# Altium schematic symbol library Additional.SchLib: 6 symbols
Pins are listed as number, name and electrical type; pins without a type are passive.

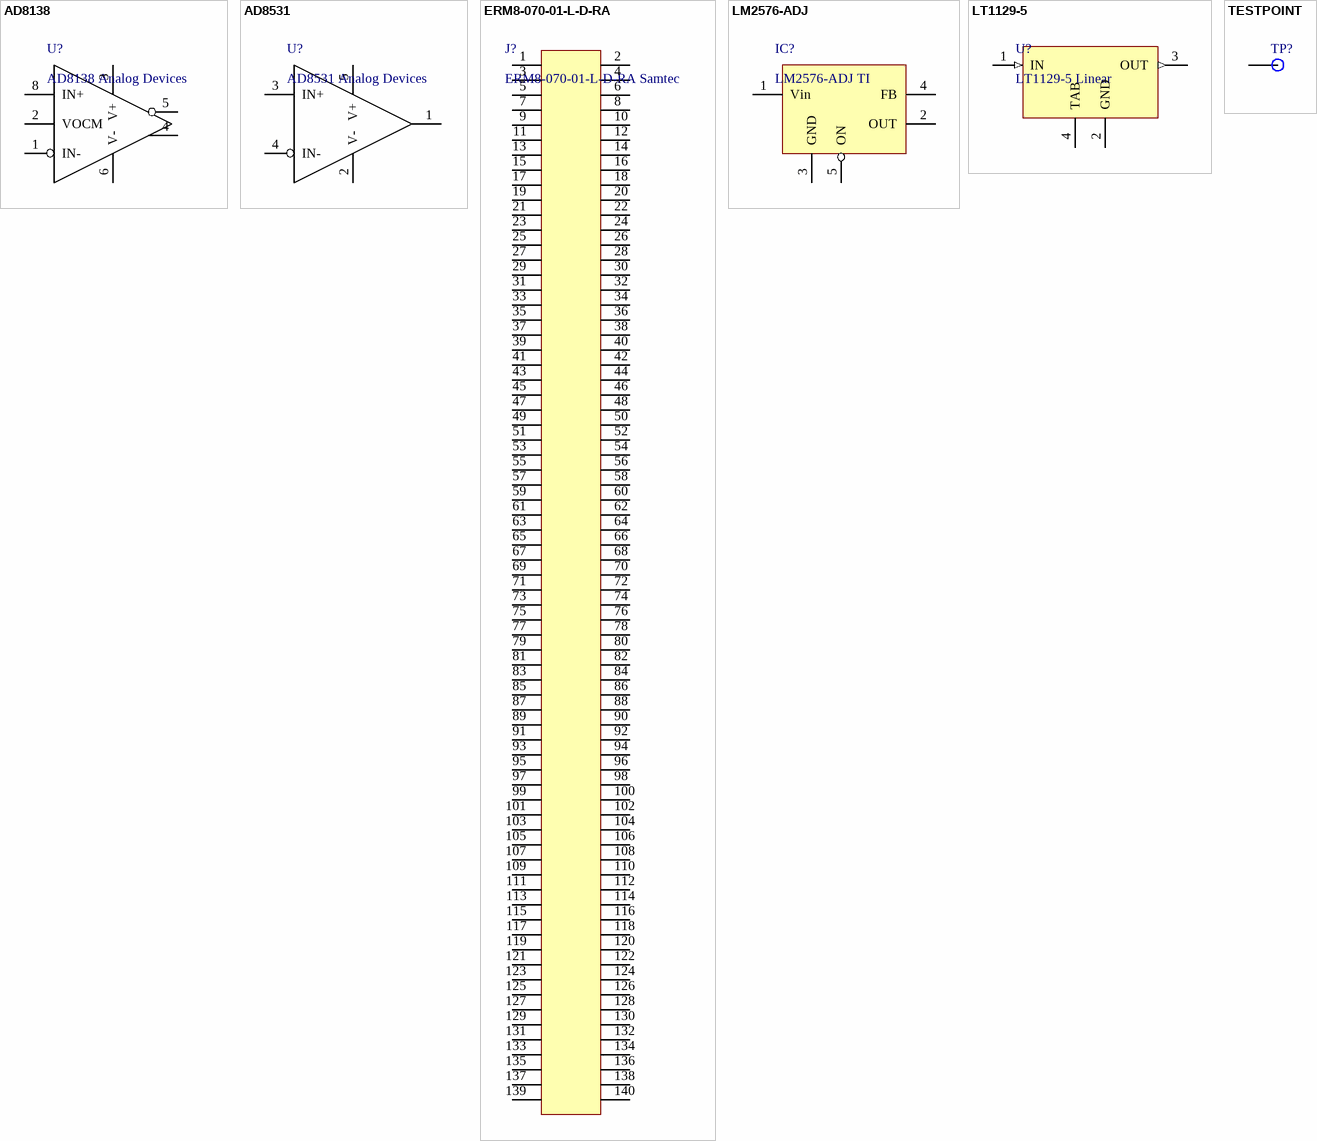
[diagram p0: symbols AD8138 to TESTPOINT]

## AD8138
designator U?, comment AD8138 Analog Devices
Manufacturer: Analog Devices; Name: AD8138
footprint SOIC127P600X175-8N (SOIC 8, Pitch 1.27mm - Body 4x5mm, IPC Medium Density)
pins: 1 IN-, 2 VOCM, 3 V+, 4 OUT+, 5 OUT-, 6 V-, 8 IN+

## AD8531
designator U?, comment AD8531 Analog Devices
Manufacturer: Analog Devices; Name: AD8531
footprint SOT95P285X145-5N (SOT23, 5-Leads, Body 3.00x2.85mm, Pitch 0.95mm, IPC Medium Density)
pins: 1 OUT+, 2 V-, 3 IN+, 4 IN-, 5 V+

## ERM8-070-01-L-D-RA
designator J?, comment ERM8-070-01-L-D-RA Samtec
Name: ERM8-070-01-L-D-RA; Manufacturer: Samtec
footprint ERM8-070-01-L-D-RA
pins: 1, 2, 3, 4, 5, 6, 7, 8, 9, 10, 11, 12, 13, 14, 15, 16, 17, 18, 19, 20, 21, 22, 23, 24, 25, 26, 27, 28, 29, 30, 31, 32, 33, 34, 35, 36, 37, 38, 39, 40, 41, 42, 43, 44, 45, 46, 47, 48, 49, 50, 51, 52, 53, 54, 55, 56, 57, 58, 59, 60, 61, 62, 63, 64, 65, 66, 67, 68, 69, 70, 71, 72, 73, 74, 75, 76, 77, 78, 79, 80, 81, 82, 83, 84, 85, 86, 87, 88, 89, 90, 91, 92, 93, 94, 95, 96, 97, 98, 99, 100, 101, 102, 103, 104, 105, 106, 107, 108, 109, 110, 111, 112, 113, 114, 115, 116, 117, 118, 119, 120, 121, 122, 123, 124, 125, 126, 127, 128, 129, 130, 131, 132, 133, 134, 135, 136, 137, 138, 139, 140

## LM2576-ADJ
designator IC?, comment LM2576-ADJ TI
Name: LM2576-ADJ; Manufacturer: TI
footprint DPAK170P1435X465-6N (D2-PAK, 6-Pads, Body 7,55x8,57mm (max), IPC Medium Density)
pins: 1 Vin, 2 OUT, 3 GND, 4 FB, 5 ON, 6 GND hidden

## LT1129-5
designator U?, comment LT1129-5 Linear
Name: LT1129-5; Manufacturer: Linear
footprint SOT230P700X175-4N (SOT223, 2.30mm pitch; 4 pin, 3.70mm W X 6.70mm L, IPC Medium Density)
pins: 1 IN (in), 2 GND (power), 3 OUT (out), 4 TAB (power)

## TESTPOINT
designator TP?
pins: 1